# Altium schematic symbol library LAN7820A.SchLib: 1 symbol
Pins are listed as number, name and electrical type; pins without a type are passive.

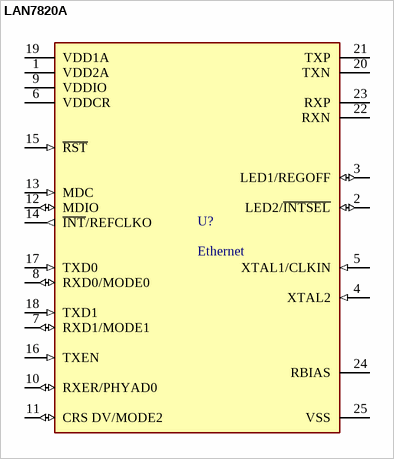
[diagram p0: symbol LAN7820A]

## LAN7820A
designator U?, comment Ethernet
footprint 24QFN-4x4B-IPC_A
footprint 24QFN-4x4B-IPC_B
pins: 1 VDD2A (power), 2 LED2/~{INTSEL} (io), 3 LED1/REGOFF (io), 4 XTAL2 (in), 5 XTAL1/CLKIN (in), 6 VDDCR (power), 7 RXD1/MODE1 (io), 8 RXD0/MODE0 (io), 9 VDDIO (power), 10 RXER/PHYAD0 (io), 11 CRS DV/MODE2 (io), 12 MDIO (io), 13 MDC (in), 14 ~{INT}/REFCLKO (out), 15 ~{RST} (in), 16 TXEN (in), 17 TXD0 (in), 18 TXD1 (in), 19 VDD1A (power), 20 TXN, 21 TXP, 22 RXN, 23 RXP, 24 RBIAS, 25 VSS (power)